# Altium schematic symbol library Connectors.SchLib: 20 symbols
Pins are listed as number, name and electrical type; pins without a type are passive.

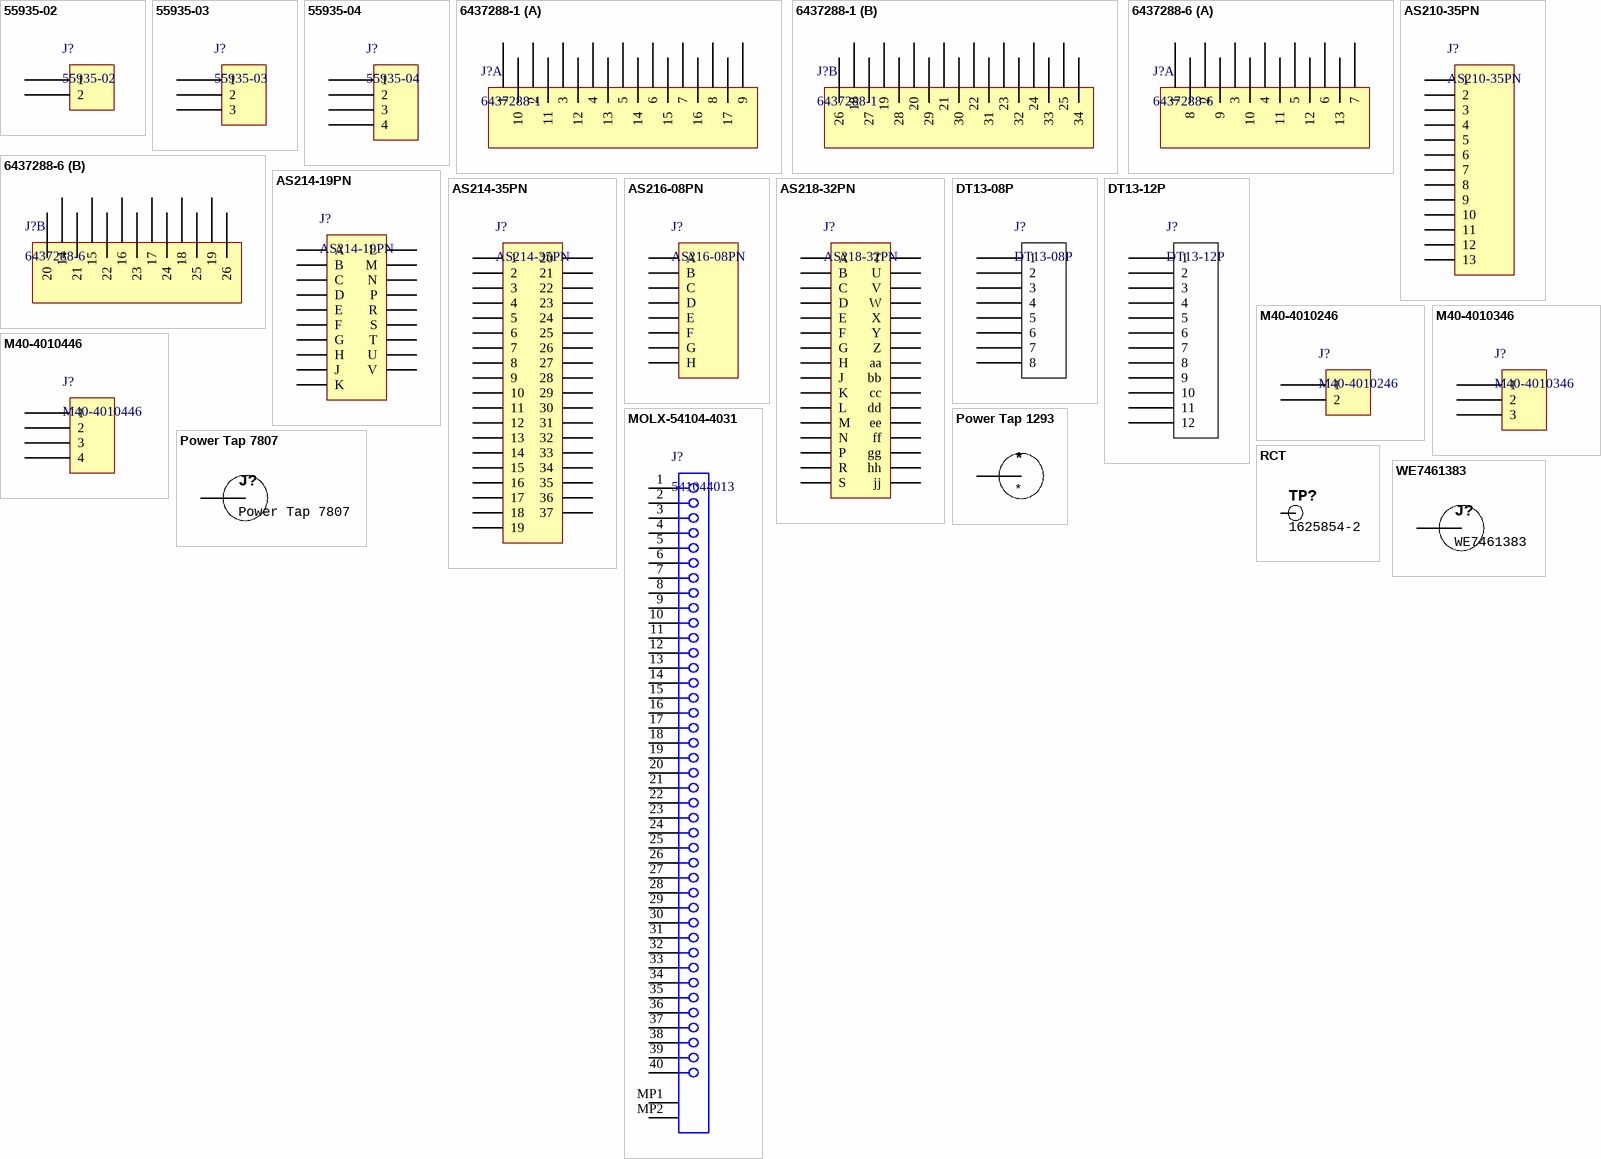
[diagram p0: symbols 55935-02 to WE7461383]

## 55935-02
designator J?
MicroClasp™ 55935
footprint 55935-02 (Molex MicroClasp™ 55935 2-pin)
pins: 1, 2

## 55935-03
designator J?
MicroClasp™ 55935
footprint 55935-03 (Molex MicroClasp™ 55935 3-pin)
pins: 1, 2, 3

## 55935-04
designator J?
MicroClasp™ 55935
footprint 55935-04 (Molex MicroClasp™ 55935 4-pin)
pins: 1, 2, 3, 4

## 6437288-1
designator J?
Superseal 34-way right angle PCB header
footprint 6437288-1
part A pins: 1, 2, 3, 4, 5, 6, 7, 8, 9, 10, 11, 12, 13, 14, 15, 16, 17
part B pins: 18, 19, 20, 21, 22, 23, 24, 25, 26, 27, 28, 29, 30, 31, 32, 33, 34

## 6437288-6
designator J?
Superseal 26-way vertical PCB header
footprint 6437288-6
part A pins: 1, 2, 3, 4, 5, 6, 7, 8, 9, 10, 11, 12, 13
part B pins: 14, 15, 16, 17, 18, 19, 20, 21, 22, 23, 24, 25, 26

## AS210-35PN
designator J?
footprint AS210-35PN
pins: 1, 2, 3, 4, 5, 6, 7, 8, 9, 10, 11, 12, 13

## AS214-19PN
designator J?
pins: A, B, C, D, E, F, G, H, J, K, L, M, N, P, R, S, T, U, V

## AS214-35PN
designator J?
footprint AS214-35PN
pins: 1, 2, 3, 4, 5, 6, 7, 8, 9, 10, 11, 12, 13, 14, 15, 16, 17, 18, 19, 20, 21, 22, 23, 24, 25, 26, 27, 28, 29, 30, 31, 32, 33, 34, 35, 36, 37

## AS216-08PN
designator J?
pins: A, B, C, D, E, F, G, H

## AS218-32PN
designator J?
footprint AS218-32PN
pins: A, aa, B, bb, C, cc, D, dd, E, ee, F, ff, G, gg, H, hh, J, jj, K, L, M, N, P, R, S, T, U, V, W, X, Y, Z

## DT13-08P
designator J?
DT Series 8-Pin Right Angle PCB Mount Receptacle
footprint DT13-08P
pins: 1, 2, 3, 4, 5, 6, 7, 8

## DT13-12P
designator J?
DT Series 12-Pin Right Angle PCB Mount Receptacle
footprint DT13-12P
pins: 1, 2, 3, 4, 5, 6, 7, 8, 9, 10, 11, 12

## M40-4010246
designator J?
footprint M40-4010246
pins: 1, 2

## M40-4010346
designator J?
footprint M40-4010346
pins: 1, 2, 3

## M40-4010446
designator J?
footprint M40-4010446
pins: 1, 2, 3, 4

## MOLX-54104-4031
designator J?, comment 541044013
footprint MOLX-54104-4031 (FPC Connector, 40-Leads, Right Angle, Pitch 0.5 mm, Mated Height 2.0 mm, SMT)
pins: 1, 2, 3, 4, 5, 6, 7, 8, 9, 10, 11, 12, 13, 14, 15, 16, 17, 18, 19, 20, 21, 22, 23, 24, 25, 26, 27, 28, 29, 30, 31, 32, 33, 34, 35, 36, 37, 38, 39, 40, MP1, MP2

## Power Tap 1293
designator *
footprint POWERTAP1293
pins: 0

## Power Tap 7807
designator J?
footprint POWERTAP7807
pins: 0

## RCT
designator TP?, comment 1625854-2
Supplier 1: Digi-Key; Supplier Part Number 1: A106144CT-ND
footprint RCT
pins: 1

## WE7461383
designator J?
footprint WE7461383
pins: 0